# EAGLE library part TEENSY_MC_BT_PINS (library custom)
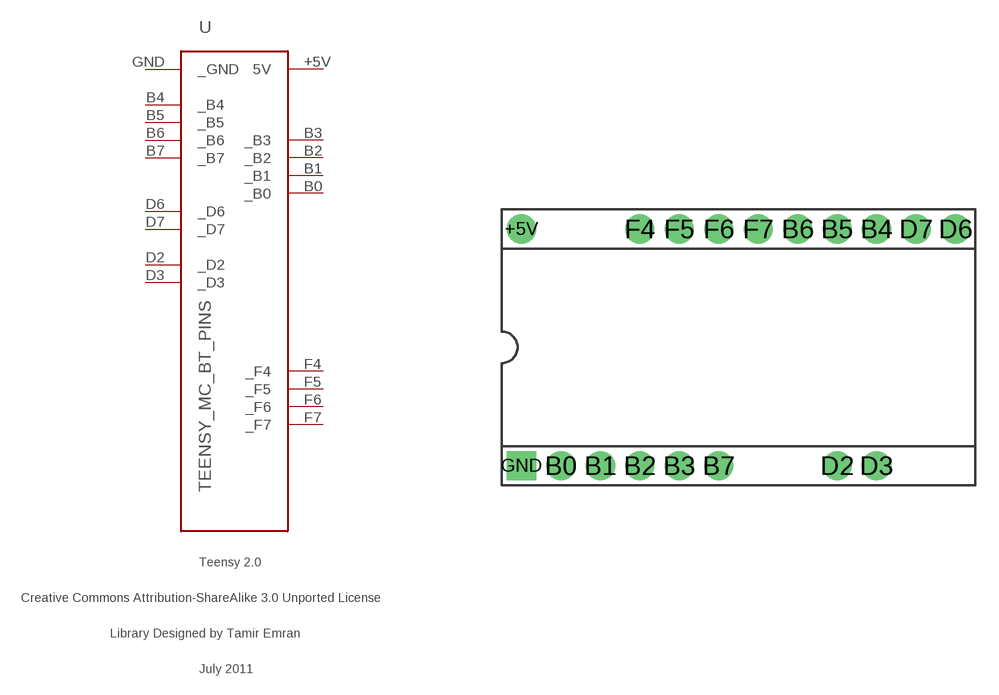
[diagram p3: symbol with the pads of TEENSY_MC_BT_PINS; footprint TEENSY_MC_BT_PINS]

Designator prefix -

## TEENSY_MC_BT_PINS  [TEENSY_MC_BT_PINS]
+5V  5V
B0  _B0
B1  _B1
B2  _B2
B3  _B3
B4  _B4
B5  _B5
B6  _B6
B7  _B7
D2  _D2
D3  _D3
D6  _D6
D7  _D7
F4  _F4
F5  _F5
F6  _F6
F7  _F7
GND  _GND

## Footprint TEENSY_MC_BT_PINS (pad centres in mm)
drill 1.016 pad 1.88: +5V -13.97,7.62; B0 -11.43,-7.62; B1 -8.89,-7.62; B2 -6.35,-7.62; B3 -3.81,-7.62; B4 8.89,7.62; B5 6.35,7.62; B6 3.81,7.62; B7 -1.27,-7.62; D2 6.35,-7.62; D3 8.89,-7.62; D6 13.97,7.62; D7 11.43,7.62; F4 -6.35,7.62; F5 -3.81,7.62; F6 -1.27,7.62; F7 1.27,7.62
drill 1.016 pad 1.88 square: GND -13.97,-7.62